# Altium schematic symbol library SRN6045-4R7Y-pcb-part-libraries.SchLib: 5 symbols
Pins are listed as number, name and electrical type; pins without a type are passive.

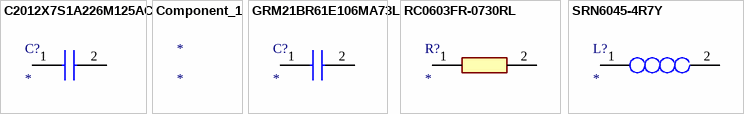
[diagram p0: symbols C2012X7S1A226M125AC to SRN6045-4R7Y]

## C2012X7S1A226M125AC
designator C?
Capacitor; Manufacturer_Name: TDK; Manufacturer_Part_Number: C2012X7S1A226M125AC; Description: TDK 0805 C 22uF Ceramic Multilayer Capacitor; Datasheet Link: https://componentsearchengine.com//C2012X7S1A226M125AC.pdf; Height: 1.45mm; Mouser2 Part Number: 810-C2012X7S1A226MAC; Mouser2 Price/Stock: https://www.mouser.com/Search/Refine.aspx?Keyword=810-C2012X7S1A226MAC
footprint CAPC2012X145N
pins: 1, 2

## Component_1
designator *

## GRM21BR61E106MA73L
designator C?
Capacitor; Manufacturer_Name: Murata Electronics; Manufacturer_Part_Number: GRM21BR61E106MA73L; Description: Multilayer Ceramic Capacitors MLCC - SMD/SMT 0805 10uF 25volts X5R 20%; Datasheet Link: https://componentsearchengine.com//GRM21BR61E106MA73L.pdf; Height: 1.45mm; Mouser2 Part Number: 81-GRM21BR61E106MA3L; Mouser2 Price/Stock: https://www.mouser.com/Search/Refine.aspx?Keyword=81-GRM21BR61E106MA3L
footprint CAPC2012X145N
pins: 1, 2

## RC0603FR-0730RL
designator R?
Resistor; Manufacturer_Name: YAGEO (PHYCOMP); Manufacturer_Part_Number: RC0603FR-0730RL; Description: Yageo RC Series Thick Film Surface Mount Resistor 0603 Case 30 +/-1% 0.1W +/-100ppm/C; Datasheet Link: http://www.yageo.com/documents/recent/PYu-RC0603_51_RoHS_L_v5.pdf; Height: 0.55mm
footprint RESC1608X55N
pins: 1, 2

## SRN6045-4R7Y
designator L?
Inductor; Manufacturer_Name: Bourns; Manufacturer_Part_Number: SRN6045-4R7Y; Description: Power Inductor semi-shielded SMD 4.7uH Bourns SRN6045 Series Shielded Wire-wound SMD Inductor with a Ferrite Core; Datasheet Link: https://www.bourns.com/data/global/pdfs/SRN6045.pdf
footprint SRN6045_1
pins: 1, 2